# EAGLE library part LM393ADR (library RoboJackets-ICs)
Comparator Differential CMOS, MOS, Open-Drain, TTL 8-SOIC DigiKey <https://www.digikey.com/product-detail/en/texas-instruments/LM393ADR/296-14605-1-ND/555542>
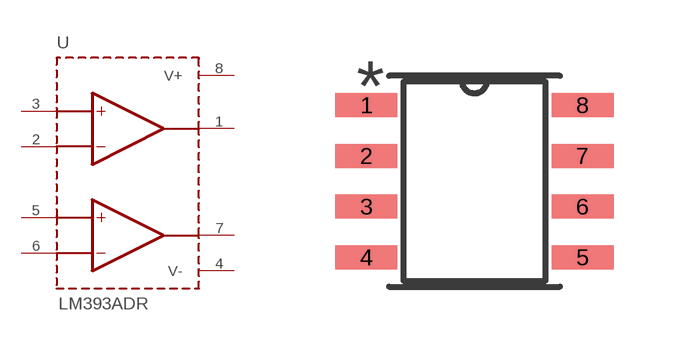
[diagram p33: symbol with the pads of 8-SOIC; footprint 8-SOIC]

Designator prefix U

## LM393ADR (DKPN: 296-14605-1-ND)  [8-SOIC]
1  OUTA  pas
2  INA-  pas
3  INA+  pas
4  V-  pas
5  INB+  pas
6  INB-  pas
7  OUTB  pas
8  V+  pas

## Footprint 8-SOIC (pad centres in mm)
smd 1.55 x 0.6: 1 -2.7,1.905; 2 -2.7,0.635; 3 -2.7,-0.635; 4 -2.7,-1.905; 5 2.7,-1.905; 6 2.7,-0.635; 7 2.7,0.635; 8 2.7,1.905